# Altium footprint library pi_mipi_dsp.PcbLib: 20 footprints (part 1 of 2)
Each footprint in its own frame and in the unit in brackets; x right, y up, seen from the top. Pads: shape width x height; smd on the part's side, far side on the other; paste and mask are expansions set on the pad; w line width, h text height; cw(c..) or ccw(c..) is an arc to the next point about the centre after c.
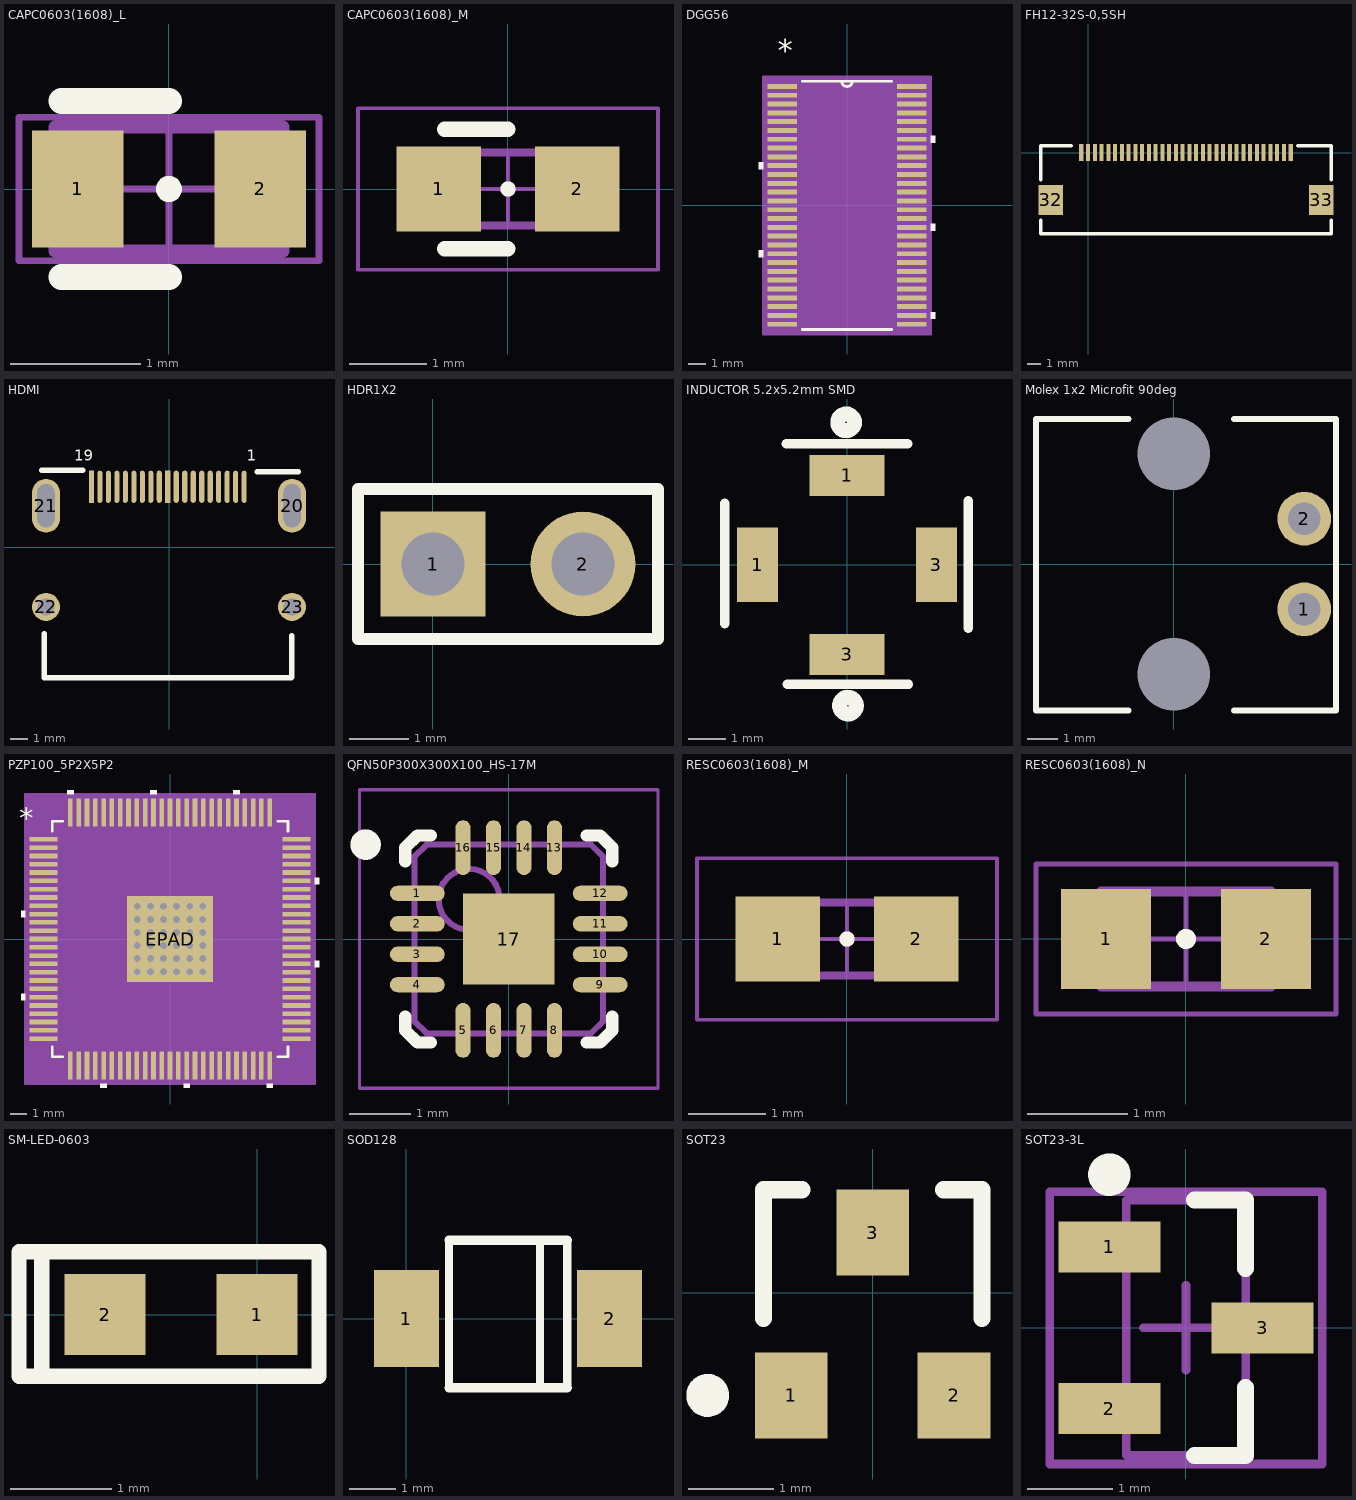
[diagram p0: the footprints below, top view; thin cyan lines are the x and y axes]

## CAPC0603(1608)_L [mm]
pads (2):
  rect 0.7x0.9 smd: 1(-0.7,0) 2(0.7,0)
Top Overlay:
  circle w0.1: c0,0 r0.05
  lines w0.2: -0.825,-0.675 0,-0.675 ; -0.825,0.675 0,0.675
Mechanical 13:
  lines w0.1: -0.875,-0.475 -0.875,0.475 0.875,0.475 0.875,-0.475 -0.875,-0.475
Mechanical 15:
  lines w0.05: -0.475,0 0.475,0 ; 0,-0.475 0,0.475 ; -1.15,-0.55 -1.15,0.55 1.15,0.55 1.15,-0.55 -1.15,-0.55
3D body "CAP-0603.STEP": height 0.86, standoff 0, extent -0.8,-0.435 0.8,0.425

## CAPC0603(1608)_M [mm]
pads (2):
  rect 1.1x1.1 smd: 1(-0.9,0) 2(0.9,0)
Top Overlay:
  circle w0.1: c0,0 r0.05
  lines w0.2: -0.825,-0.775 0,-0.775 ; -0.825,0.775 0,0.775
Mechanical 13:
  lines w0.1: -0.875,-0.475 0.875,-0.475 0.875,0.475 -0.875,0.475 -0.875,-0.475
Mechanical 15:
  lines w0.05: -0.475,0 0.475,0 ; 0,-0.475 0,0.475 ; -1.95,-1.05 1.95,-1.05 1.95,1.05 -1.95,1.05 -1.95,-1.05
3D body "CAP-0603.STEP": height 0.86, standoff 0, extent -0.8,-0.435 0.8,0.425

## DGG56 [mil]
pads (56):
  rect 66x11 smd: 1(-144.5,265.75) 2(-144.5,246.06) 3(-144.5,226.38) 4(-144.5,206.69) 5(-144.5,187.01) 6(-144.5,167.32) 7(-144.5,147.64) 8(-144.5,127.95) 9(-144.5,108.27) 10(-144.5,88.58) 11(-144.5,68.9) 12(-144.5,49.21) 13(-144.5,29.53) 14(-144.5,9.84) 15(-144.5,-9.84) 16(-144.5,-29.53) 17(-144.5,-49.21) 18(-144.5,-68.9) 19(-144.5,-88.58) 20(-144.5,-108.27) 21(-144.5,-127.95) 22(-144.5,-147.64) 23(-144.5,-167.32) 24(-144.5,-187.01) 25(-144.5,-206.69) 26(-144.5,-226.38) 27(-144.5,-246.06) 28(-144.5,-265.75) 29(144.5,-265.75) 30(144.5,-246.06) 31(144.5,-226.38) 32(144.5,-206.69) 33(144.5,-187.01) 34(144.5,-167.32) 35(144.5,-147.64) 36(144.5,-127.95) 37(144.5,-108.27) 38(144.5,-88.58) 39(144.5,-68.9) 40(144.5,-49.21) 41(144.5,-29.53) 42(144.5,-9.84) 43(144.5,9.84) 44(144.5,29.53) 45(144.5,49.21) 46(144.5,68.9) 47(144.5,88.58) 48(144.5,108.27) 49(144.5,127.95) 50(144.5,147.64) 51(144.5,167.32) 52(144.5,187.01) 53(144.5,206.69) 54(144.5,226.38) 55(144.5,246.06) 56(144.5,265.75)
Top Overlay:
  region: -187.5,96.08 -197.5,96.08 -197.5,81.08 -187.5,81.08
  region: -187.5,-100.77 -197.5,-100.77 -197.5,-115.77 -187.5,-115.77
  region: 187.5,-238.56 197.5,-238.56 197.5,-253.56 187.5,-253.56
  region: 187.5,-41.71 197.5,-41.71 197.5,-56.71 187.5,-56.71
  region: 187.5,155.14 197.5,155.14 197.5,140.14 187.5,140.14
  lines w6: -99.99,-277.5 99.99,-277.5 ; -99.99,277.5 99.99,277.5 ; -12,277.5 ccw(c0,277.5) 12,277.5
  text "*" at -154.5,321.75 h50
Mechanical 13:
  lines w0: -12,277.5 ccw(c0,277.5) 12,277.5
  text "*" at -154.5,321.75 h50
Mechanical 15:
  region: 187.5,-287.5 -187.5,-287.5 -187.5,287.5 187.5,287.5
  lines w6: -187.5,-287.5 -187.5,287.5 187.5,287.5 187.5,-287.5 -187.5,-287.5
3D body "DGG56.stp": height 47.1, standoff 0, extent -163.5,-277.5 163.5,277.5

## FH12-32S-0,5SH [mm]
pads (34):
  rect 0.3x1.25 smd: 0(-0.5,0) 1(0,0) 2(0.5,0) 3(1,0) 4(1.5,0) 5(2,0) 6(2.5,0) 7(3,0) 8(3.5,0) 9(4,0) 10(4.5,0) 11(5,0) 12(5.5,0) 13(6,0) 14(6.5,0) 15(7,0) 16(7.5,0) 17(8,0) 18(8.5,0) 19(9,0) 20(9.5,0) 21(10,0) 22(10.5,0) 23(11,0) 24(11.5,0) 25(12,0) 26(12.5,0) 27(13,0) 28(13.5,0) 29(14,0) 30(14.5,0) 31(15,0)
  rect 1.8x2.2 smd: 32(-2.75,-3.5) 33(17.25,-3.5)
Top Overlay:
  lines w0.254: -3.5,-5 -3.5,-6 18,-6 18,-5 ; -3.5,-2 -3.5,0.5 -2.5,0.5 -1.25,0.5 ; 15.5,0.5 18,0.5 18,-2

## HDMI [mm]
pads (23):
  oval 0.3x1.9 smd: 1(4.428,3.556) 2(3.928,3.556) 3(3.428,3.556) 4(2.928,3.556) 5(2.428,3.556) 6(1.928,3.556) 7(1.428,3.556) 8(0.928,3.556) 9(0.428,3.556) 11(-0.572,3.556) 12(-1.072,3.556) 13(-1.572,3.556) 14(-2.072,3.556) 15(-2.572,3.556) 16(-3.072,3.556) 17(-3.572,3.556) 18(-4.072,3.556)
  rect 0.3x1.9 smd: 10(-0.072,3.556) 19(-4.572,3.556)
  oval 1.651x3.175 hole 1.016 slot 2.54 at 90 deg: 20(7.25,2.44) 21(-7.25,2.44)
  round 1.651 hole 1.016: 22(-7.25,-3.52) 23(7.25,-3.52)
Top Overlay:
  lines w0.33: -7.5,4.525 -5.087,4.525 ; -7.35,-5.108 -7.35,-7.7 7.2,-7.7 ; 5.207,4.445 7.62,4.445 ; 7.225,-7.65 7.225,-5.225
  text "19" at -5.588,5.08 h0.64
  text "1" at 4.572,5.08 h0.64

## HDR1X2 [mil]
pads (2):
  rect 70x70 hole 42: 1(0,0)
  round 70 hole 42: 2(100,0)
Top Overlay:
  lines w7.87: -50,-50 -50,50 150,50 150,-50 -50,-50
Mechanical 1:
  circle w10: c0,0 r17.72
  circle w10: c100,0 r18.44
3D body "HDR1X2.STEP": height 330, standoff -150, extent -49,-50 151,50

## INDUCTOR 5.2x5.2mm SMD [mm]
pads (4):
  rect 1.1x2 smd: 1(-2.4,0) 3(2.4,0)
  rect 2x1.1 smd: 1(0,2.4) 3(0,-2.4)
Top Overlay:
  circle w0.4: c-0.025,3.825 r0.225
  circle w0.4: c0.025,-3.775 r0.225
  lines w0.254: -3.275,-1.575 -3.275,1.65 ; -1.625,3.25 1.625,3.25 ; -1.6,-3.2 1.65,-3.2 ; 3.25,-1.7 3.25,1.725
3D body "SRU5028 Inductor.STEP": height 2.9, standoff 0, extent -2.625,-2.625 2.575,2.575

## Molex 1x2 Microfit 90deg [mm]
pads (4):
  round 0 hole 2.41 unplated: 0(0,-3.65) 0(0,3.65)
  round 1.778 hole 1.067: 1(4.32,-1.5) 2(4.32,1.5)
Top Overlay:
  lines w0.2: -1.5,-4.845 -4.561,-4.845 -4.561,4.807 -1.5,4.807 ; 2,-4.845 5.352,-4.845 ; 2,4.807 5.37,4.807 5.37,-4.845
3D body "436500204.stp": height 5.64, standoff -3.15, extent -4.554,-4.757 5.346,4.893

## PZP100_5P2X5P2 [mil]
pads (137):
  rect 66x11 smd: 1(-300,236.22) 2(-300,216.54) 3(-300,196.85) 4(-300,177.17) 5(-300,157.48) 6(-300,137.8) 7(-300,118.11) 8(-300,98.43) 9(-300,78.74) 10(-300,59.06) 11(-300,39.37) 12(-300,19.69) 13(-300,0) 14(-300,-19.68) 15(-300,-39.37) 16(-300,-59.06) 17(-300,-78.74) 18(-300,-98.43) 19(-300,-118.11) 20(-300,-137.8) 21(-300,-157.48) 22(-300,-177.17) 23(-300,-196.85) 24(-300,-216.54) 25(-300,-236.22) 51(300,-236.22) 52(300,-216.54) 53(300,-196.85) 54(300,-177.17) 55(300,-157.48) 56(300,-137.8) 57(300,-118.11) 58(300,-98.43) 59(300,-78.74) 60(300,-59.06) 61(300,-39.37) 62(300,-19.68) 63(300,0) 64(300,19.68) 65(300,39.37) 66(300,59.06) 67(300,78.74) 68(300,98.43) 69(300,118.11) 70(300,137.8) 71(300,157.48) 72(300,177.17) 73(300,196.85) 74(300,216.54) 75(300,236.22)
  rect 11x66 smd: 26(-236.22,-300) 27(-216.54,-300) 28(-196.85,-300) 29(-177.17,-300) 30(-157.48,-300) 31(-137.8,-300) 32(-118.11,-300) 33(-98.43,-300) 34(-78.74,-300) 35(-59.06,-300) 36(-39.37,-300) 37(-19.68,-300) 38(0,-300) 39(19.68,-300) 40(39.37,-300) 41(59.06,-300) 42(78.74,-300) 43(98.43,-300) 44(118.11,-300) 45(137.8,-300) 46(157.48,-300) 47(177.17,-300) 48(196.85,-300) 49(216.54,-300) 50(236.22,-300) 76(236.22,300) 77(216.54,300) 78(196.85,300) 79(177.17,300) 80(157.48,300) 81(137.8,300) 82(118.11,300) 83(98.43,300) 84(78.74,300) 85(59.06,300) 86(39.37,300) 87(19.68,300) 88(0,300) 89(-19.68,300) 90(-39.37,300) 91(-59.06,300) 92(-78.74,300) 93(-98.43,300) 94(-118.11,300) 95(-137.8,300) 96(-157.48,300) 97(-177.17,300) 98(-196.85,300) 99(-216.54,300) 100(-236.22,300)
  round 28 hole 16: EPAD(-77.5,-77.5) EPAD(-77.5,-46.5) EPAD(-77.5,-15.5) EPAD(-77.5,15.5) EPAD(-77.5,46.5) EPAD(-77.5,77.5) EPAD(-46.5,-77.5) EPAD(-46.5,-46.5) EPAD(-46.5,-15.5) EPAD(-46.5,15.5) EPAD(-46.5,46.5) EPAD(-46.5,77.5) EPAD(-15.5,-77.5) EPAD(-15.5,-46.5) EPAD(-15.5,-15.5) EPAD(-15.5,15.5) EPAD(-15.5,46.5) EPAD(-15.5,77.5) EPAD(15.5,-77.5) EPAD(15.5,-46.5) EPAD(15.5,-15.5) EPAD(15.5,15.5) EPAD(15.5,46.5) EPAD(15.5,77.5) EPAD(46.5,-77.5) EPAD(46.5,-46.5) EPAD(46.5,-15.5) EPAD(46.5,15.5) EPAD(46.5,46.5) EPAD(46.5,77.5) EPAD(77.5,-77.5) EPAD(77.5,-46.5) EPAD(77.5,-15.5) EPAD(77.5,15.5) EPAD(77.5,46.5) EPAD(77.5,77.5)
  rect 204.72x204.72 smd paste-101.86 mask-102: EPAD(0,0)
Top Overlay:
  region: -228.72,343 -243.72,343 -243.72,353 -228.72,353
  region: -31.87,343 -46.87,343 -46.87,353 -31.87,353
  region: 164.98,343 149.98,343 149.98,353 164.98,353
  region: 343,145.3 353,145.3 353,130.3 343,130.3
  region: 343,-51.56 353,-51.56 353,-66.56 343,-66.56
  region: 243.72,-343 228.72,-343 228.72,-353 243.72,-353
  region: 46.87,-343 31.87,-343 31.87,-353 46.87,-353
  region: -149.98,-343 -164.98,-343 -164.98,-353 -149.98,-353
  region: -343,-130.3 -353,-130.3 -353,-145.3 -343,-145.3
  region: -343,66.56 -353,66.56 -353,51.56 -343,51.56
  lines w6: -279.5,-254.82 -279.5,-279.5 -254.82,-279.5 ; -279.5,254.82 -279.5,279.5 -254.82,279.5 ; 254.82,-279.5 279.5,-279.5 279.5,-254.82 ; 254.82,279.5 279.5,279.5 279.5,254.82
  text "*" at -358,261.06 h50
Top Paste:
  drawing of 49 lines, arcs and shapes, not listed
Top Solder:
  region: 85.37,-104.86 85.37,104.86 104.86,104.86 104.86,-104.86
  region: 69.63,-104.86 69.63,104.86 54.37,104.86 54.37,-104.86
  region: 38.63,-104.86 38.63,104.86 23.37,104.86 23.37,-104.86
  region: 7.63,-104.86 7.63,104.86 -7.63,104.86 -7.63,-104.86
  region: -23.37,-104.86 -23.37,104.86 -38.63,104.86 -38.63,-104.86
  region: -54.37,-104.86 -54.37,104.86 -69.63,104.86 -69.63,-104.86
  region: -104.86,-104.86 -104.86,104.86 -85.37,104.86 -85.37,-104.86
  region: -104.86,-104.86 -104.86,-85.37 104.86,-85.37 104.86,-104.86
  region: -104.86,-69.63 -104.86,-54.37 104.86,-54.37 104.86,-69.63
  region: -104.86,-38.63 -104.86,-23.37 104.86,-23.37 104.86,-38.63
  region: -104.86,-7.63 -104.86,7.63 104.86,7.63 104.86,-7.63
  region: -104.86,23.37 -104.86,38.63 104.86,38.63 104.86,23.37
  region: -104.86,54.37 -104.86,69.63 104.86,69.63 104.86,54.37
  region: -104.86,85.37 -104.86,104.86 104.86,104.86 104.86,85.37
Mechanical 13:
  text "*" at -358,261.06 h50
Mechanical 15:
  region: 343,-343 -343,-343 -343,343 343,343
  lines w6: -343,-343 343,-343 343,343 -343,343 -343,-343
3D body "PZP100_5P2X5P2.stp": height 47.1, standoff 0, extent -319,-319 319,319

## QFN50P300X300X100_HS-17M [mm]
pads (17):
  oval 0.9x0.25 smd: 1(-1.5,0.75) 2(-1.5,0.25) 3(-1.5,-0.25) 4(-1.5,-0.75) 9(1.5,-0.75) 10(1.5,-0.25) 11(1.5,0.25) 12(1.5,0.75)
  oval 0.25x0.9 smd: 5(-0.75,-1.5) 6(-0.25,-1.5) 7(0.25,-1.5) 8(0.75,-1.5) 13(0.75,1.5) 14(0.25,1.5) 15(-0.25,1.5) 16(-0.75,1.5)
  rect 1.5x1.5 smd: 17(0,0)
Top Overlay:
  circle w0.25: c-2.35,1.55 r0.125
  lines w0.2: -1.7,-1.275 -1.7,-1.5 -1.5,-1.7 -1.275,-1.7 ; -1.7,1.275 -1.7,1.5 -1.5,1.7 -1.275,1.7 ; 1.275,-1.7 1.5,-1.7 1.7,-1.5 1.7,-1.275 ; 1.275,1.7 1.5,1.7 1.7,1.5 1.7,1.275
Mechanical 13:
  circle w0.1: c-0.65,0.65 r0.5
  lines w0.1: -1.55,-1.35 -1.55,1.35 -1.35,1.55 1.35,1.55 1.55,1.35 1.55,-1.35 1.35,-1.55 -1.35,-1.55 -1.55,-1.35
Mechanical 15:
  lines w0.05: -2.45,-2.45 2.45,-2.45 2.45,2.45 -2.45,2.45 -2.45,-2.45
  lines w0.1: -0.5,0 0.5,0 ; 0,-0.5 0,0.5
3D body: height 1, standoff 0.02, extent -1.55,-1.55 1.55,1.55

## RESC0603(1608)_M [mm]
pads (2):
  rect 1.1x1.1 smd: 1(-0.9,0) 2(0.9,0)
Top Overlay:
  circle w0.1: c0,0 r0.05
Mechanical 13:
  lines w0.1: -0.85,-0.475 -0.85,0.475 0.85,0.475 0.85,-0.475 -0.85,-0.475
Mechanical 15:
  lines w0.05: -0.475,0 0.475,0 ; 0,-0.475 0,0.475 ; -1.95,-1.05 -1.95,1.05 1.95,1.05 1.95,-1.05 -1.95,-1.05
3D body "RES-0603.STEP": height 0.51, standoff 0, extent -0.799,-0.427 0.801,0.433

## RESC0603(1608)_N [mm]
pads (2):
  rect 0.9x1 smd: 1(-0.8,0) 2(0.8,0)
Top Overlay:
  circle w0.1: c0,0 r0.05
Mechanical 13:
  lines w0.1: -0.85,-0.475 -0.85,0.475 0.85,0.475 0.85,-0.475 -0.85,-0.475
Mechanical 15:
  lines w0.05: -0.475,0 0.475,0 ; 0,-0.475 0,0.475 ; -1.5,-0.75 -1.5,0.75 1.5,0.75 1.5,-0.75 -1.5,-0.75
3D body "RES-0603.STEP": height 0.51, standoff 0, extent -0.799,-0.427 0.801,0.433

## SM-LED-0603 [mm]
pads (2):
  rect 0.8x0.8 smd: 1(0,0) 2(-1.5,0)
Top Overlay:
  lines w0.152: -2.125,-0.6 -2.125,0.617 ; -2.35,-0.61 0.61,-0.61 0.61,0.62 -2.35,0.62 -2.35,-0.61
3D body "0603-led.STEP": height 0.67, standoff 0, extent -1.55,-0.357 0.1,0.368

## SOD128 [mm]
pads (2):
  rect 1.4x2.1 smd: 1(0,0) 2(4.4,0)
Top Overlay:
  lines w0.178: 0.92,-1.5 0.92,1.7 ; 2.895,-1.5 2.895,1.7 ; 3.485,-1.5 3.485,1.7
  lines w0.2: 0.92,-1.5 3.485,-1.5 ; 0.92,1.7 3.485,1.7

## SOT23 [mm]
pads (3):
  rect 0.85x1 smd: 1(-0.95,-1.2) 2(0.95,-1.2) 3(0,0.7)
Top Overlay:
  circle w0.25: c-1.925,-1.2 r0.125
  lines w0.2: -1.275,-0.3 -1.275,1.2 -0.825,1.2 ; 0.825,1.2 1.275,1.2 1.275,-0.3
3D body "SOT23.STEP": height 1.1, standoff 0, extent -1.499,-1.53 1.501,0.97

## SOT23-3L [mm]
pads (3):
  rect 1.2x0.6 smd: 1(-0.9,0.95) 2(-0.9,-0.95) 3(0.9,0)
Top Overlay:
  circle w0.25: c-0.9,1.8 r0.125
  lines w0.2: 0.1,-1.5 0.7,-1.5 0.7,-0.7 ; 0.1,1.5 0.7,1.5 0.7,0.7
Mechanical 13:
  lines w0.1: -0.7,-1.5 -0.7,1.5 0.7,1.5 0.7,-1.5 -0.7,-1.5
Mechanical 15:
  lines w0.1: -0.5,0 0.5,0 ; 0,-0.5 0,0.5 ; -1.6,-1.6 -1.6,1.6 1.6,1.6 1.6,-1.6 -1.6,-1.6
3D body "SOT23.STEP": height 1.1, standoff 0, extent -1.335,-1.499 1.164,1.501